# Altium integrated library MS1V-T1K.IntLib: 1 symbol
Pins are listed as number, name and electrical type; pins without a type are passive.

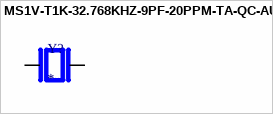
[diagram p0: symbol MS1V-T1K-32.768KHZ-9PF-20PPM-TA-QC-AU]

## MS1V-T1K-32.768KHZ-9PF-20PPM-TA-QC-AU
designator Y?
LOW FREQUENCY CRYSTAL; MP: MS1V-T1K-32.768KHZ-9PF-20PPM-TA-QC-AU; MF: Micro Crystal AG; SnapEDA_Link: https://www.snapeda.com/parts/MS1V-T1K-32.768KHZ-9PF-20PPM-TA-QC-AU/Micro+Crystal/view-part/?ref=snap; Value: *; Check_prices: https://www.snapeda.com/parts/MS1V-T1K-32.768KHZ-9PF-20PPM-TA-QC-AU/Micro+Crystal/view-part/?ref=eda; Purchase-URL: https://pricing.snapeda.com/search/part/MS1V-T1K-32.768KHZ-9PF-20PPM-TA-QC-AU/?ref=eda; Package: SMD-3 Micro Crystal
footprint XTAL_MS1V-T1K-32.768KHZ-9PF-20PPM-TA-QC-AU
pins: 1, 2